# Altium schematic symbol library Encoder.SchLib: 3 symbols
Pins are listed as number, name and electrical type; pins without a type are passive.

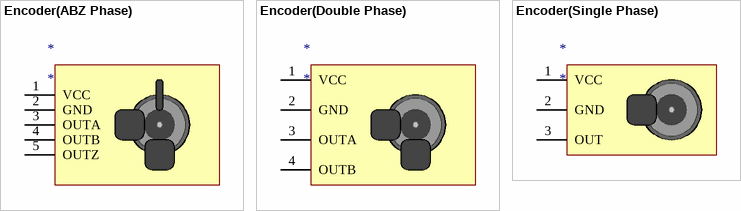
[diagram p0: symbols Encoder(ABZ Phase) to Encoder(Single Phase)]

## Encoder(ABZ Phase)
designator *
pins: 1 VCC, 2 GND, 3 OUTA, 4 OUTB, 5 OUTZ

## Encoder(Double Phase)
designator *
pins: 1 VCC, 2 GND, 3 OUTA, 4 OUTB

## Encoder(Single Phase)
designator *
pins: 1 VCC, 2 GND, 3 OUT